# Altium footprint library NEW_PCB_2021-12-20.PcbLib: 1 footprints
Each footprint in its own frame and in the unit in brackets; x right, y up, seen from the top. Pads: shape width x height; smd on the part's side, far side on the other; paste and mask are expansions set on the pad; w line width, h text height; cw(c..) or ccw(c..) is an arc to the next point about the centre after c.
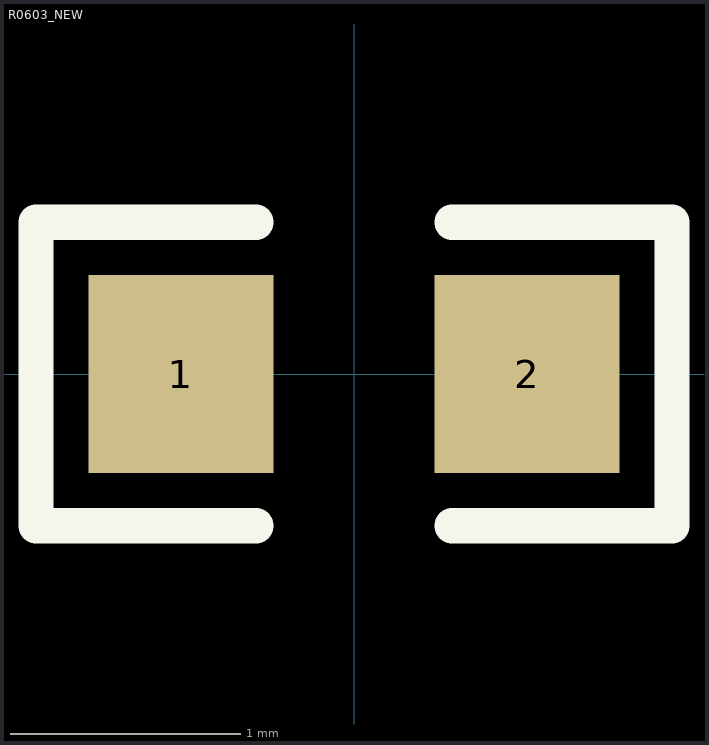
[diagram p0: the footprint, top view; thin cyan lines are the x and y axes]

## R0603_NEW [mm]
pads (2):
  rect 0.806x0.864 smd: 1(-0.753,0) 2(0.753,0)
Top Overlay:
  lines w0.152: -0.426,-0.661 -1.385,-0.661 -1.385,0.661 -0.426,0.661 ; 0.426,-0.661 1.385,-0.661 1.385,0.661 0.426,0.661
Top Paste:
  region: 1.3,0.45 0.45,0.45 0.4,0.4 0.4,0.15 0.7,0.15 0.7,-0.15 0.4,-0.15 0.4,-0.4 0.45,-0.45 1.3,-0.45 1.35,-0.4 1.35,0.4
  region: -0.4,0.4 -0.4,0.15 -0.7,0.15 -0.7,-0.15 -0.4,-0.15 -0.4,-0.4 -0.45,-0.45 -1.3,-0.45 -1.35,-0.4 -1.35,0.4 -1.3,0.45 -0.45,0.45